# EAGLE library part TS3001 (library Clock)
1V/1µA Oscillator, Silicon IC 5.2kHz ~ 90kHz 8-WFDFN Exposed Pad Datasheet <http://www.silabs.com/Support%20Documents/TechnicalDocs/TS3001.pdf>
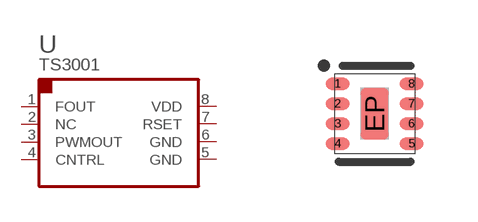
[diagram p2: symbol with the pads of TDFN-8; footprint TDFN-8]

Designator prefix U

## TS3001ITD822T  [TDFN-8]
1  FOUT  out
2  NC  nc
3  PWMOUT  out
4  CNTRL  in
5  GND  pwr
6  GND  pwr
7  RSET  pas
8  VDD  pwr

## Footprint TDFN-8 (pad centres in mm)
8-Pin TDFN 2 x 2mm
smd 0.6 x 0.3: 1 -0.925,0.75; 2 -0.925,0.25; 3 -0.925,-0.25; 4 -0.925,-0.75; 5 0.925,-0.75; 6 0.925,-0.25; 7 0.925,0.25; 8 0.925,0.75
smd 0.7 x 1.3: EP 0,0